# Altium footprint library PcbLib1.PcbLib: 2 footprints
Each footprint in its own frame and in the unit in brackets; x right, y up, seen from the top. Pads: shape width x height; smd on the part's side, far side on the other; paste and mask are expansions set on the pad; w line width, h text height; cw(c..) or ccw(c..) is an arc to the next point about the centre after c.
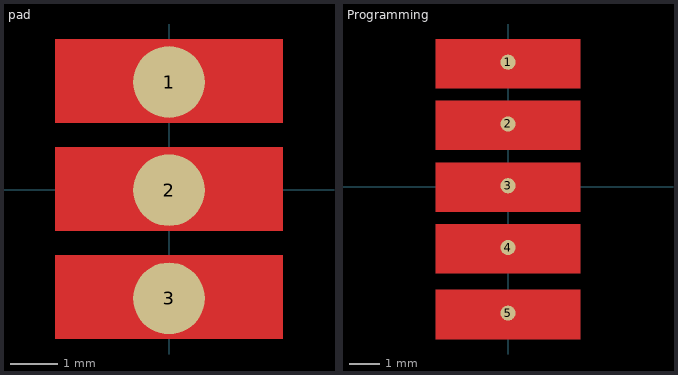
[diagram p0: the footprints below, top view; thin cyan lines are the x and y axes]

## pad [mil]
pads (3):
  round 60 smd: 1(0,90) 2(0,-0.5) 3(0,-91)
Top Layer:
  region: -95,126 95,126 95,56 -95,56
  region: -95,-55 95,-55 95,-125 -95,-125
  region: -95,35.5 95,35.5 95,-34.5 -95,-34.5

## Programming [mil]
pads (5):
  round 20 smd: 1(0,164) 2(0,82.75) 3(0,1.5) 4(0,-79.75) 5(0,-166)
Top Layer:
  region: -95,-135.5 95,-135.5 95,-200 -95,-200
  region: -95,-49.25 95,-49.25 95,-113.75 -95,-113.75
  region: -95,194.5 95,194.5 95,130 -95,130
  region: -95,113.25 95,113.25 95,48.75 -95,48.75
  region: -95,32 95,32 95,-32.5 -95,-32.5